# Altium footprint library LQFP0.50P14.0X14.0X1.4-80U.PcbLib: 3 footprints
Each footprint in its own frame and in the unit in brackets; x right, y up, seen from the top. Pads: shape width x height; smd on the part's side, far side on the other; paste and mask are expansions set on the pad; w line width, h text height; cw(c..) or ccw(c..) is an arc to the next point about the centre after c.
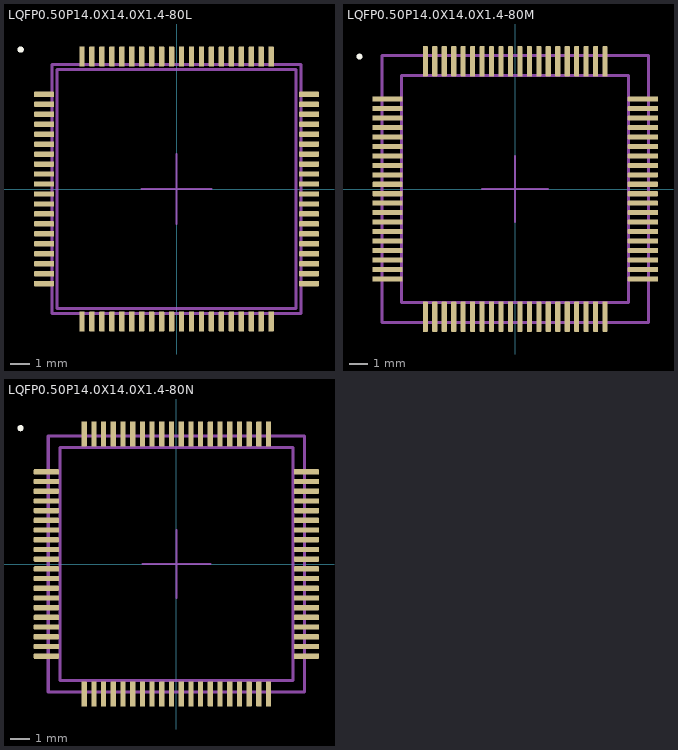
[diagram p0: the footprints below, top view; thin cyan lines are the x and y axes]

## LQFP0.50P14.0X14.0X1.4-80L [mm] "LQFP 80 12x12x1.4 mm"
height 1.4
pads (80):
  rrect25% 1x0.27 smd: 1(-6.65,4.75) 2(-6.65,4.25) 3(-6.65,3.75) 4(-6.65,3.25) 5(-6.65,2.75) 6(-6.65,2.25) 7(-6.65,1.75) 8(-6.65,1.25) 9(-6.65,0.75) 10(-6.65,0.25) 11(-6.65,-0.25) 12(-6.65,-0.75) 13(-6.65,-1.25) 14(-6.65,-1.75) 15(-6.65,-2.25) 16(-6.65,-2.75) 17(-6.65,-3.25) 18(-6.65,-3.75) 19(-6.65,-4.25) 20(-6.65,-4.75) 41(6.65,-4.75) 42(6.65,-4.25) 43(6.65,-3.75) 44(6.65,-3.25) 45(6.65,-2.75) 46(6.65,-2.25) 47(6.65,-1.75) 48(6.65,-1.25) 49(6.65,-0.75) 50(6.65,-0.25) 51(6.65,0.25) 52(6.65,0.75) 53(6.65,1.25) 54(6.65,1.75) 55(6.65,2.25) 56(6.65,2.75) 57(6.65,3.25) 58(6.65,3.75) 59(6.65,4.25) 60(6.65,4.75)
  rrect25% 0.27x1 smd: 21(-4.75,-6.65) 22(-4.25,-6.65) 23(-3.75,-6.65) 24(-3.25,-6.65) 25(-2.75,-6.65) 26(-2.25,-6.65) 27(-1.75,-6.65) 28(-1.25,-6.65) 29(-0.75,-6.65) 30(-0.25,-6.65) 31(0.25,-6.65) 32(0.75,-6.65) 33(1.25,-6.65) 34(1.75,-6.65) 35(2.25,-6.65) 36(2.75,-6.65) 37(3.25,-6.65) 38(3.75,-6.65) 39(4.25,-6.65) 40(4.75,-6.65) 61(4.75,6.65) 62(4.25,6.65) 63(3.75,6.65) 64(3.25,6.65) 65(2.75,6.65) 66(2.25,6.65) 67(1.75,6.65) 68(1.25,6.65) 69(0.75,6.65) 70(0.25,6.65) 71(-0.25,6.65) 72(-0.75,6.65) 73(-1.25,6.65) 74(-1.75,6.65) 75(-2.25,6.65) 76(-2.75,6.65) 77(-3.25,6.65) 78(-3.75,6.65) 79(-4.25,6.65) 80(-4.75,6.65)
Top Overlay:
  circle w0.16: c-7.83,7 r0.08
Top Component Center:
  lines w0.1: -1.75,0 1.75,0 ; 0,-1.75 0,1.75
Top Courtyard:
  lines w0.16: -6.25,-6.25 6.25,-6.25 6.25,6.25 -6.25,6.25 -6.25,-6.25
Top Assembly:
  lines w0.16: -6,-6 6,-6 6,6 -6,6 -6,-6
3D body "LQFP0.50P14.0X14.0X1.4-80L.STEP": height 1, standoff 0

## LQFP0.50P14.0X14.0X1.4-80M [mm] "LQFP 80 12x12x1.4 mm"
height 1.4
pads (80):
  rrect25% 1.6x0.27 smd: 1(-6.75,4.75) 2(-6.75,4.25) 3(-6.75,3.75) 4(-6.75,3.25) 5(-6.75,2.75) 6(-6.75,2.25) 7(-6.75,1.75) 8(-6.75,1.25) 9(-6.75,0.75) 10(-6.75,0.25) 11(-6.75,-0.25) 12(-6.75,-0.75) 13(-6.75,-1.25) 14(-6.75,-1.75) 15(-6.75,-2.25) 16(-6.75,-2.75) 17(-6.75,-3.25) 18(-6.75,-3.75) 19(-6.75,-4.25) 20(-6.75,-4.75) 41(6.75,-4.75) 42(6.75,-4.25) 43(6.75,-3.75) 44(6.75,-3.25) 45(6.75,-2.75) 46(6.75,-2.25) 47(6.75,-1.75) 48(6.75,-1.25) 49(6.75,-0.75) 50(6.75,-0.25) 51(6.75,0.25) 52(6.75,0.75) 53(6.75,1.25) 54(6.75,1.75) 55(6.75,2.25) 56(6.75,2.75) 57(6.75,3.25) 58(6.75,3.75) 59(6.75,4.25) 60(6.75,4.75)
  rrect25% 0.27x1.6 smd: 21(-4.75,-6.75) 22(-4.25,-6.75) 23(-3.75,-6.75) 24(-3.25,-6.75) 25(-2.75,-6.75) 26(-2.25,-6.75) 27(-1.75,-6.75) 28(-1.25,-6.75) 29(-0.75,-6.75) 30(-0.25,-6.75) 31(0.25,-6.75) 32(0.75,-6.75) 33(1.25,-6.75) 34(1.75,-6.75) 35(2.25,-6.75) 36(2.75,-6.75) 37(3.25,-6.75) 38(3.75,-6.75) 39(4.25,-6.75) 40(4.75,-6.75) 61(4.75,6.75) 62(4.25,6.75) 63(3.75,6.75) 64(3.25,6.75) 65(2.75,6.75) 66(2.25,6.75) 67(1.75,6.75) 68(1.25,6.75) 69(0.75,6.75) 70(0.25,6.75) 71(-0.25,6.75) 72(-0.75,6.75) 73(-1.25,6.75) 74(-1.75,6.75) 75(-2.25,6.75) 76(-2.75,6.75) 77(-3.25,6.75) 78(-3.75,6.75) 79(-4.25,6.75) 80(-4.75,6.75)
Top Overlay:
  circle w0.16: c-8.23,7 r0.08
Top Component Center:
  lines w0.1: -1.75,0 1.75,0 ; 0,-1.75 0,1.75
Top Courtyard:
  lines w0.16: -7.05,-7.05 7.05,-7.05 7.05,7.05 -7.05,7.05 -7.05,-7.05
Top Assembly:
  lines w0.16: -6,-6 6,-6 6,6 -6,6 -6,-6
3D body "LQFP0.50P14.0X14.0X1.4-80M.STEP": height 1, standoff 0

## LQFP0.50P14.0X14.0X1.4-80N [mm] "LQFP 80 12x12x1.4 mm"
height 1.4
pads (80):
  rrect25% 1.3x0.27 smd: 1(-6.7,4.75) 2(-6.7,4.25) 3(-6.7,3.75) 4(-6.7,3.25) 5(-6.7,2.75) 6(-6.7,2.25) 7(-6.7,1.75) 8(-6.7,1.25) 9(-6.7,0.75) 10(-6.7,0.25) 11(-6.7,-0.25) 12(-6.7,-0.75) 13(-6.7,-1.25) 14(-6.7,-1.75) 15(-6.7,-2.25) 16(-6.7,-2.75) 17(-6.7,-3.25) 18(-6.7,-3.75) 19(-6.7,-4.25) 20(-6.7,-4.75) 41(6.7,-4.75) 42(6.7,-4.25) 43(6.7,-3.75) 44(6.7,-3.25) 45(6.7,-2.75) 46(6.7,-2.25) 47(6.7,-1.75) 48(6.7,-1.25) 49(6.7,-0.75) 50(6.7,-0.25) 51(6.7,0.25) 52(6.7,0.75) 53(6.7,1.25) 54(6.7,1.75) 55(6.7,2.25) 56(6.7,2.75) 57(6.7,3.25) 58(6.7,3.75) 59(6.7,4.25) 60(6.7,4.75)
  rrect25% 0.27x1.3 smd: 21(-4.75,-6.7) 22(-4.25,-6.7) 23(-3.75,-6.7) 24(-3.25,-6.7) 25(-2.75,-6.7) 26(-2.25,-6.7) 27(-1.75,-6.7) 28(-1.25,-6.7) 29(-0.75,-6.7) 30(-0.25,-6.7) 31(0.25,-6.7) 32(0.75,-6.7) 33(1.25,-6.7) 34(1.75,-6.7) 35(2.25,-6.7) 36(2.75,-6.7) 37(3.25,-6.7) 38(3.75,-6.7) 39(4.25,-6.7) 40(4.75,-6.7) 61(4.75,6.7) 62(4.25,6.7) 63(3.75,6.7) 64(3.25,6.7) 65(2.75,6.7) 66(2.25,6.7) 67(1.75,6.7) 68(1.25,6.7) 69(0.75,6.7) 70(0.25,6.7) 71(-0.25,6.7) 72(-0.75,6.7) 73(-1.25,6.7) 74(-1.75,6.7) 75(-2.25,6.7) 76(-2.75,6.7) 77(-3.25,6.7) 78(-3.75,6.7) 79(-4.25,6.7) 80(-4.75,6.7)
Top Overlay:
  circle w0.16: c-8.03,7 r0.08
Top Component Center:
  lines w0.1: -1.75,0 1.75,0 ; 0,-1.75 0,1.75
Top Courtyard:
  lines w0.16: -6.6,-6.6 6.6,-6.6 6.6,6.6 -6.6,6.6 -6.6,-6.6
Top Assembly:
  lines w0.16: -6,-6 6,-6 6,6 -6,6 -6,-6
3D body "LQFP0.50P14.0X14.0X1.4-80N.STEP": height 1, standoff 0